# Altium schematic symbol library SCH - MCU - INFINEON - INFINEON S6E1B34G0XXV2 LQFP-120.SchLib: 1 symbol
Pins are listed as number, name and electrical type; pins without a type are passive.

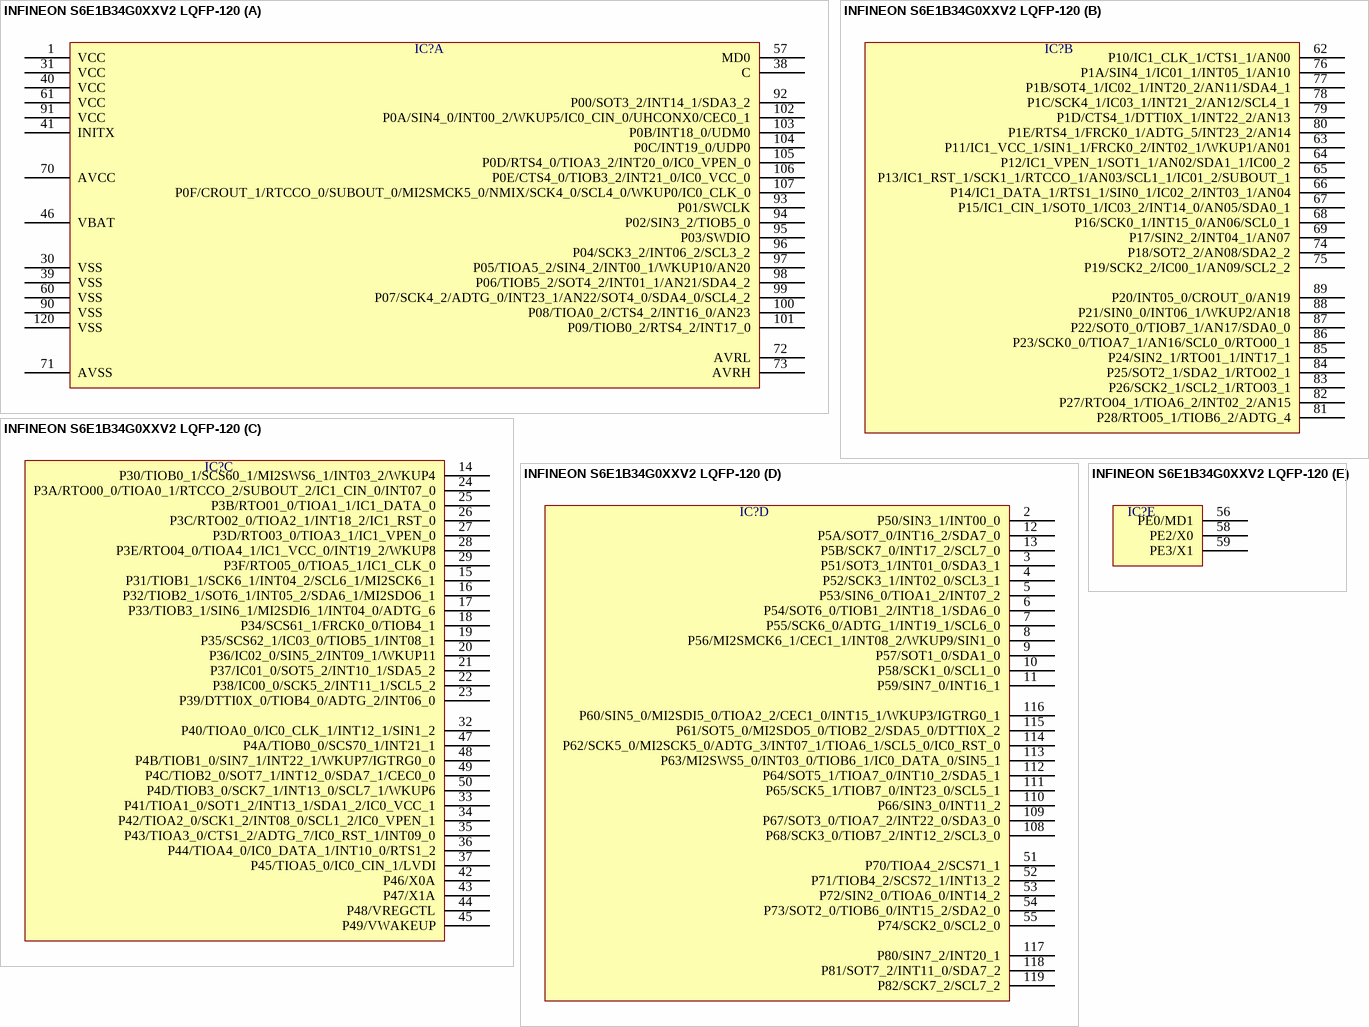
[diagram p0: symbol INFINEON S6E1B34G0XXV2 LQFP-120]

## INFINEON S6E1B34G0XXV2 LQFP-120
designator IC?  (value not drawn)
part A pins: 1 VCC, 30 VSS, 31 VCC, 38 C, 39 VSS, 40 VCC, 41 INITX, 46 VBAT, 57 MD0, 60 VSS, 61 VCC, 70 AVCC, 71 AVSS, 72 AVRL, 73 AVRH, 90 VSS, 91 VCC, 92 P00/SOT3_2/INT14_1/SDA3_2, 93 P01/SWCLK, 94 P02/SIN3_2/TIOB5_0, 95 P03/SWDIO, 96 P04/SCK3_2/INT06_2/SCL3_2, 97 P05/TIOA5_2/SIN4_2/INT00_1/WKUP10/AN20, 98 P06/TIOB5_2/SOT4_2/INT01_1/AN21/SDA4_2, 99 P07/SCK4_2/ADTG_0/INT23_1/AN22/SOT4_0/SDA4_0/SCL4_2, 100 P08/TIOA0_2/CTS4_2/INT16_0/AN23, 101 P09/TIOB0_2/RTS4_2/INT17_0, 102 P0A/SIN4_0/INT00_2/WKUP5/IC0_CIN_0/UHCONX0/CEC0_1, 103 P0B/INT18_0/UDM0, 104 P0C/INT19_0/UDP0, 105 P0D/RTS4_0/TIOA3_2/INT20_0/IC0_VPEN_0, 106 P0E/CTS4_0/TIOB3_2/INT21_0/IC0_VCC_0, 107 P0F/CROUT_1/RTCCO_0/SUBOUT_0/MI2SMCK5_0/NMIX/SCK4_0/SCL4_0/WKUP0/IC0_CLK_0, 120 VSS
part B pins: 62 P10/IC1_CLK_1/CTS1_1/AN00, 63 P11/IC1_VCC_1/SIN1_1/FRCK0_2/INT02_1/WKUP1/AN01, 64 P12/IC1_VPEN_1/SOT1_1/AN02/SDA1_1/IC00_2, 65 P13/IC1_RST_1/SCK1_1/RTCCO_1/AN03/SCL1_1/IC01_2/SUBOUT_1, 66 P14/IC1_DATA_1/RTS1_1/SIN0_1/IC02_2/INT03_1/AN04, 67 P15/IC1_CIN_1/SOT0_1/IC03_2/INT14_0/AN05/SDA0_1, 68 P16/SCK0_1/INT15_0/AN06/SCL0_1, 69 P17/SIN2_2/INT04_1/AN07, 74 P18/SOT2_2/AN08/SDA2_2, 75 P19/SCK2_2/IC00_1/AN09/SCL2_2, 76 P1A/SIN4_1/IC01_1/INT05_1/AN10, 77 P1B/SOT4_1/IC02_1/INT20_2/AN11/SDA4_1, 78 P1C/SCK4_1/IC03_1/INT21_2/AN12/SCL4_1, 79 P1D/CTS4_1/DTTI0X_1/INT22_2/AN13, 80 P1E/RTS4_1/FRCK0_1/ADTG_5/INT23_2/AN14, 81 P28/RTO05_1/TIOB6_2/ADTG_4, 82 P27/RTO04_1/TIOA6_2/INT02_2/AN15, 83 P26/SCK2_1/SCL2_1/RTO03_1, 84 P25/SOT2_1/SDA2_1/RTO02_1, 85 P24/SIN2_1/RTO01_1/INT17_1, 86 P23/SCK0_0/TIOA7_1/AN16/SCL0_0/RTO00_1, 87 P22/SOT0_0/TIOB7_1/AN17/SDA0_0, 88 P21/SIN0_0/INT06_1/WKUP2/AN18, 89 P20/INT05_0/CROUT_0/AN19
part C pins: 14 P30/TIOB0_1/SCS60_1/MI2SWS6_1/INT03_2/WKUP4, 15 P31/TIOB1_1/SCK6_1/INT04_2/SCL6_1/MI2SCK6_1, 16 P32/TIOB2_1/SOT6_1/INT05_2/SDA6_1/MI2SDO6_1, 17 P33/TIOB3_1/SIN6_1/MI2SDI6_1/INT04_0/ADTG_6, 18 P34/SCS61_1/FRCK0_0/TIOB4_1, 19 P35/SCS62_1/IC03_0/TIOB5_1/INT08_1, 20 P36/IC02_0/SIN5_2/INT09_1/WKUP11, 21 P37/IC01_0/SOT5_2/INT10_1/SDA5_2, 22 P38/IC00_0/SCK5_2/INT11_1/SCL5_2, 23 P39/DTTI0X_0/TIOB4_0/ADTG_2/INT06_0, 24 P3A/RTO00_0/TIOA0_1/RTCCO_2/SUBOUT_2/IC1_CIN_0/INT07_0, 25 P3B/RTO01_0/TIOA1_1/IC1_DATA_0, 26 P3C/RTO02_0/TIOA2_1/INT18_2/IC1_RST_0, 27 P3D/RTO03_0/TIOA3_1/IC1_VPEN_0, 28 P3E/RTO04_0/TIOA4_1/IC1_VCC_0/INT19_2/WKUP8, 29 P3F/RTO05_0/TIOA5_1/IC1_CLK_0, 32 P40/TIOA0_0/IC0_CLK_1/INT12_1/SIN1_2, 33 P41/TIOA1_0/SOT1_2/INT13_1/SDA1_2/IC0_VCC_1, 34 P42/TIOA2_0/SCK1_2/INT08_0/SCL1_2/IC0_VPEN_1, 35 P43/TIOA3_0/CTS1_2/ADTG_7/IC0_RST_1/INT09_0, 36 P44/TIOA4_0/IC0_DATA_1/INT10_0/RTS1_2, 37 P45/TIOA5_0/IC0_CIN_1/LVDI, 42 P46/X0A, 43 P47/X1A, 44 P48/VREGCTL, 45 P49/VWAKEUP, 47 P4A/TIOB0_0/SCS70_1/INT21_1, 48 P4B/TIOB1_0/SIN7_1/INT22_1/WKUP7/IGTRG0_0, 49 P4C/TIOB2_0/SOT7_1/INT12_0/SDA7_1/CEC0_0, 50 P4D/TIOB3_0/SCK7_1/INT13_0/SCL7_1/WKUP6
part D pins: 2 P50/SIN3_1/INT00_0, 3 P51/SOT3_1/INT01_0/SDA3_1, 4 P52/SCK3_1/INT02_0/SCL3_1, 5 P53/SIN6_0/TIOA1_2/INT07_2, 6 P54/SOT6_0/TIOB1_2/INT18_1/SDA6_0, 7 P55/SCK6_0/ADTG_1/INT19_1/SCL6_0, 8 P56/MI2SMCK6_1/CEC1_1/INT08_2/WKUP9/SIN1_0, 9 P57/SOT1_0/SDA1_0, 10 P58/SCK1_0/SCL1_0, 11 P59/SIN7_0/INT16_1, 12 P5A/SOT7_0/INT16_2/SDA7_0, 13 P5B/SCK7_0/INT17_2/SCL7_0, 51 P70/TIOA4_2/SCS71_1, 52 P71/TIOB4_2/SCS72_1/INT13_2, 53 P72/SIN2_0/TIOA6_0/INT14_2, 54 P73/SOT2_0/TIOB6_0/INT15_2/SDA2_0, 55 P74/SCK2_0/SCL2_0, 108 P68/SCK3_0/TIOB7_2/INT12_2/SCL3_0, 109 P67/SOT3_0/TIOA7_2/INT22_0/SDA3_0, 110 P66/SIN3_0/INT11_2, 111 P65/SCK5_1/TIOB7_0/INT23_0/SCL5_1, 112 P64/SOT5_1/TIOA7_0/INT10_2/SDA5_1, 113 P63/MI2SWS5_0/INT03_0/TIOB6_1/IC0_DATA_0/SIN5_1, 114 P62/SCK5_0/MI2SCK5_0/ADTG_3/INT07_1/TIOA6_1/SCL5_0/IC0_RST_0, 115 P61/SOT5_0/MI2SDO5_0/TIOB2_2/SDA5_0/DTTI0X_2, 116 P60/SIN5_0/MI2SDI5_0/TIOA2_2/CEC1_0/INT15_1/WKUP3/IGTRG0_1, 117 P80/SIN7_2/INT20_1, 118 P81/SOT7_2/INT11_0/SDA7_2, 119 P82/SCK7_2/SCL7_2
part E pins: 56 PE0/MD1, 58 PE2/X0, 59 PE3/X1